# EAGLE library part MPU6050 (library KwanSystems)
MPU6050 or MPU9150 Pin 3 is NC on the '6050, VDD on the '9150. Since pin 3 is not internally connected, a socket for the '9150 is compatible with a '6050.
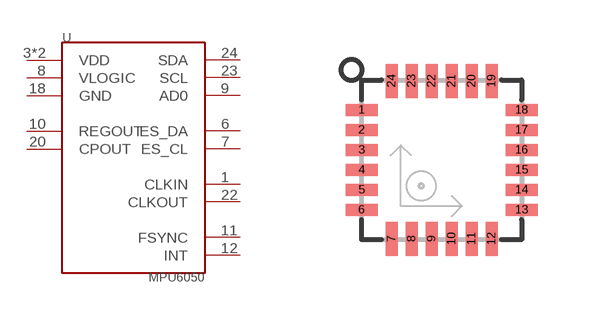
[diagram p25: symbol with the pads of MPU60X0; footprint MPU60X0]

Designator prefix -

## MPU6050  [MPU60X0]
1  CLKIN
3  VDD
6  ES_DA
7  ES_CL
8  VLOGIC
9  AD0
10  REGOUT
11  FSYNC
12  INT
13  VDD
18  GND
20  CPOUT
22  CLKOUT
23  SCL
24  SDA

## Footprint MPU60X0 (pad centres in mm)
smd 0.8 x 0.3: 1 -2,1.25; 2 -2,0.75; 3 -2,0.25; 4 -2,-0.25; 5 -2,-0.75; 6 -2,-1.25; 13 2,-1.25; 14 2,-0.75; 15 2,-0.25; 16 2,0.25; 17 2,0.75; 18 2,1.25
smd 0.3 x 0.85: 7 -1.25,-1.975; 8 -0.75,-1.975; 9 -0.25,-1.975; 10 0.25,-1.975; 11 0.75,-1.975; 12 1.25,-1.975; 19 1.25,1.975; 20 0.75,1.975; 21 0.25,1.975; 22 -0.25,1.975; 23 -0.75,1.975; 24 -1.25,1.975